# EAGLE library part SKQUCAA010 (library Joystick5Way)
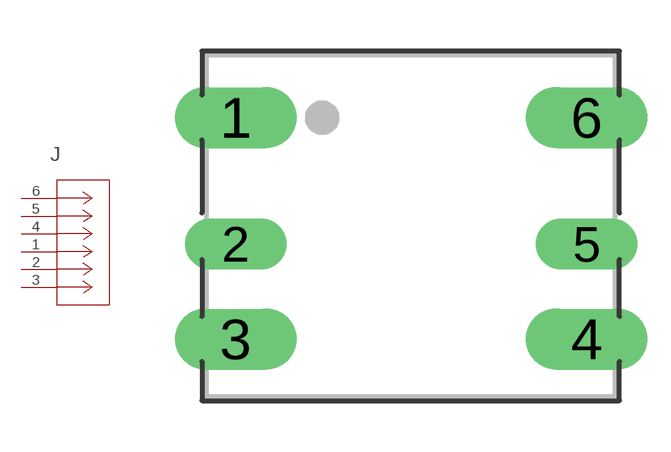
[diagram p0: symbol with the pads of CONN_SKQUC_ALPS; footprint CONN_SKQUC_ALPS]

Designator prefix J

## SKQUCAA010 (COPYRIGHT: Copyright (C) 2022 Ultra Librarian. All rights reserved.; MANUFACTURER_PART_NUMBER: SKQUCAA010; MFR_NAME: Alps Electric)  [CONN_SKQUC_ALPS]
1  1  pas
2  2  pas
3  3  pas
4  4  pas
5  5  pas
6  6  pas

## Footprint CONN_SKQUC_ALPS (pad centres in mm)
drill 1.194 pad 1.702 long: 1 0,0; 3 0,-6.502; 4 10.312,-6.502; 6 10.312,0
drill 0.991 pad 1.499 long: 2 0,-3.708; 5 10.312,-3.708